# EAGLE library part LM2674 (library Moodlight)
LM2674 High Efficiency 500 mA Step-Down Voltage Regulator
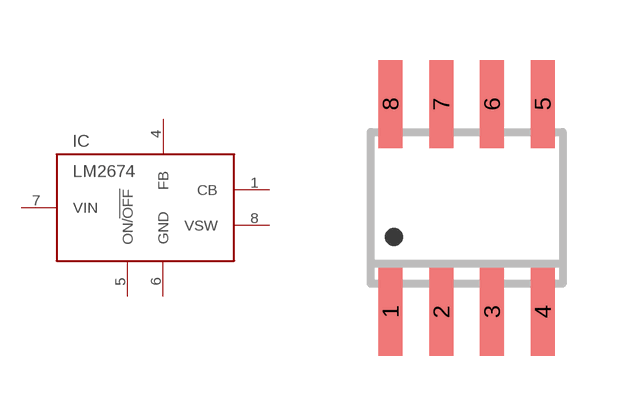
[diagram p5: symbol with the pads of SO08; footprint SO08]

Designator prefix IC

## LM2674  [SO08]
1  CB
4  FB
5  ON/!OFF
6  GND
7  VIN
8  VSW

## Footprint SO08 (pad centres in mm)
Small Outline Package 8 NS Package M08A
smd 0.6 x 2.2: 1 -1.905,-2.6; 2 -0.635,-2.6; 3 0.635,-2.6; 4 1.905,-2.6; 5 1.905,2.6; 6 0.635,2.6; 7 -0.635,2.6; 8 -1.905,2.6